# EAGLE library part MAX6817 (library MAX6818 CMOS Switch debouncer)
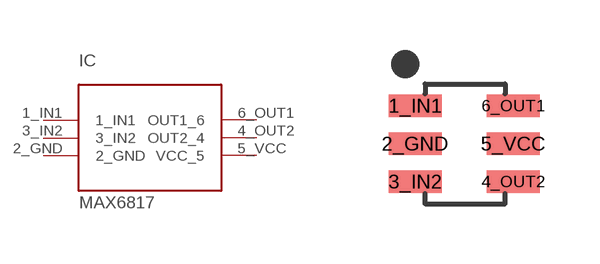
[diagram p1: symbol with the pads of 6SOT23; footprint 6SOT23]

Designator prefix IC

## MAX6817  [6SOT23]
1_IN1  1_IN1
2_GND  2_GND
3_IN2  3_IN2
4_OUT2  OUT2_4
5_VCC  VCC_5
6_OUT1  OUT1_6

## Footprint 6SOT23 (pad centres in mm)
smd 1.33 x 0.56: 1_IN1 -1.25,0.95; 2_GND -1.25,0; 3_IN2 -1.25,-0.95; 4_OUT2 1.2,-0.95; 5_VCC 1.2,0; 6_OUT1 1.2,0.95